# Altium schematic symbol library NLB-310.Schlib: 1 symbol
Pins are listed as number, name and electrical type; pins without a type are passive.

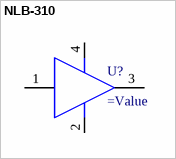
[diagram p0: symbol NLB-310]

## NLB-310
designator U?
pins: 1 RFIN, 2 GND (power), 3 RFOUT, 4 GND (power)